# Altium integrated library CapCerâmicoTHL.IntLib: 1 symbol
Pins are listed as number, name and electrical type; pins without a type are passive.

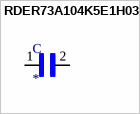
[diagram p0: symbol RDER73A104K5E1H03A]

## RDER73A104K5E1H03A
designator C
Lead Capacitor X7R_EIA_ with Capacitance: 0.10F and Rated Voltage: 1000Vdc; MF: Murata; MP: RDER73A104K5E1H03A; Value: *; Price: None; SnapEDA_Link: https://www.snapeda.com/parts/RDER73A104K5E1H03A/Murata/view-part/4545952/?ref=snap; Package: Radial Murata; Availability: Unavailable
footprint CAP_RDER73A104K5E1H03A
pins: 1, 2